# EAGLE library part BOB-12009 (library BOB-12009)
Logic Level Converter - Bi-Direc
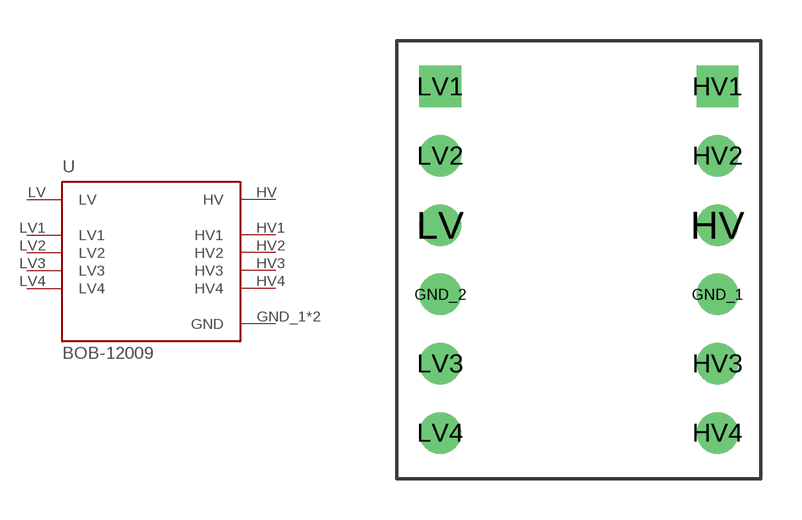
[diagram p0: symbol with the pads of CONV_BOB-12009; footprint CONV_BOB-12009]

Designator prefix U

## BOB-12009 (MANUFACTURER: SparkFun Electronics; MAXIMUM_PACKAGE_HEIGHT: N/A; PARTREV: 01; STANDARD: Manufacturer Recommendations)  [CONV_BOB-12009]
GND_1  GND  pwr
GND_2  GND  pwr
HV  HV
HV1  HV1
HV2  HV2
HV3  HV3
HV4  HV4
LV  LV
LV1  LV1
LV2  LV2
LV3  LV3
LV4  LV4

## Footprint CONV_BOB-12009 (pad centres in mm)
drill 1.016: GND_1 5.08,-1.27; GND_2 -5.08,-1.27; HV 5.08,1.27; HV2 5.08,3.81; HV3 5.08,-3.81; HV4 5.08,-6.35; LV -5.08,1.27; LV2 -5.08,3.81; LV3 -5.08,-3.81; LV4 -5.08,-6.35
drill 1.016 square: HV1 5.08,6.35; LV1 -5.08,6.35